# Altium footprint library BH1750FVI.PcbLib: 1 footprints
Each footprint in its own frame and in the unit in brackets; x right, y up, seen from the top. Pads: shape width x height; smd on the part's side, far side on the other; paste and mask are expansions set on the pad; w line width, h text height; cw(c..) or ccw(c..) is an arc to the next point about the centre after c.
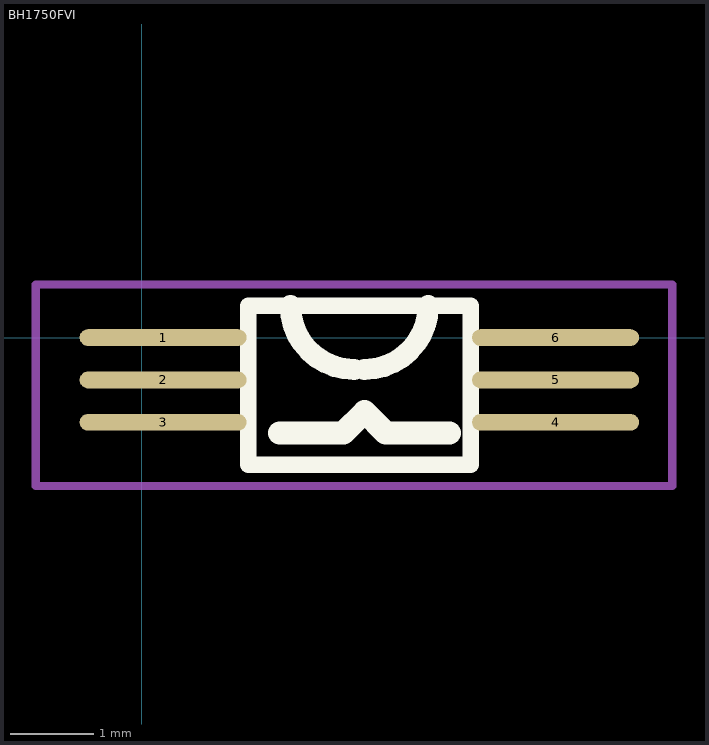
[diagram p0: the footprint, top view; thin cyan lines are the x and y axes]

## BH1750FVI [mm]
pads (6):
  oval 2x0.2 smd: 1(0.254,0) 2(0.254,-0.508) 3(0.254,-1.016) 4(4.953,-1.016) 5(4.953,-0.508) 6(4.953,0)
Top Overlay:
  lines w0.2: 1.273,-1.524 1.273,0.381 3.937,0.381 3.937,-1.524 1.273,-1.524
  lines w0.254: 1.778,0.381 ccw(c2.54,0.381) 2.54,-0.381 ; 2.667,-0.381 ccw(c2.667,0.381) 3.429,0.381
  lines w0.278: 1.651,-1.143 2.413,-1.143 2.667,-0.889 2.921,-1.143 3.683,-1.143
Mechanical 15:
  lines w0.1: 2.54,-1.524 3.54,-1.524 ; -1.27,-1.778 -1.27,0.635 6.35,0.635 6.35,-1.778 -1.27,-1.778